# Altium integrated library National Semiconductor Switcher.IntLib: 2226 symbols (part 39 of 59)
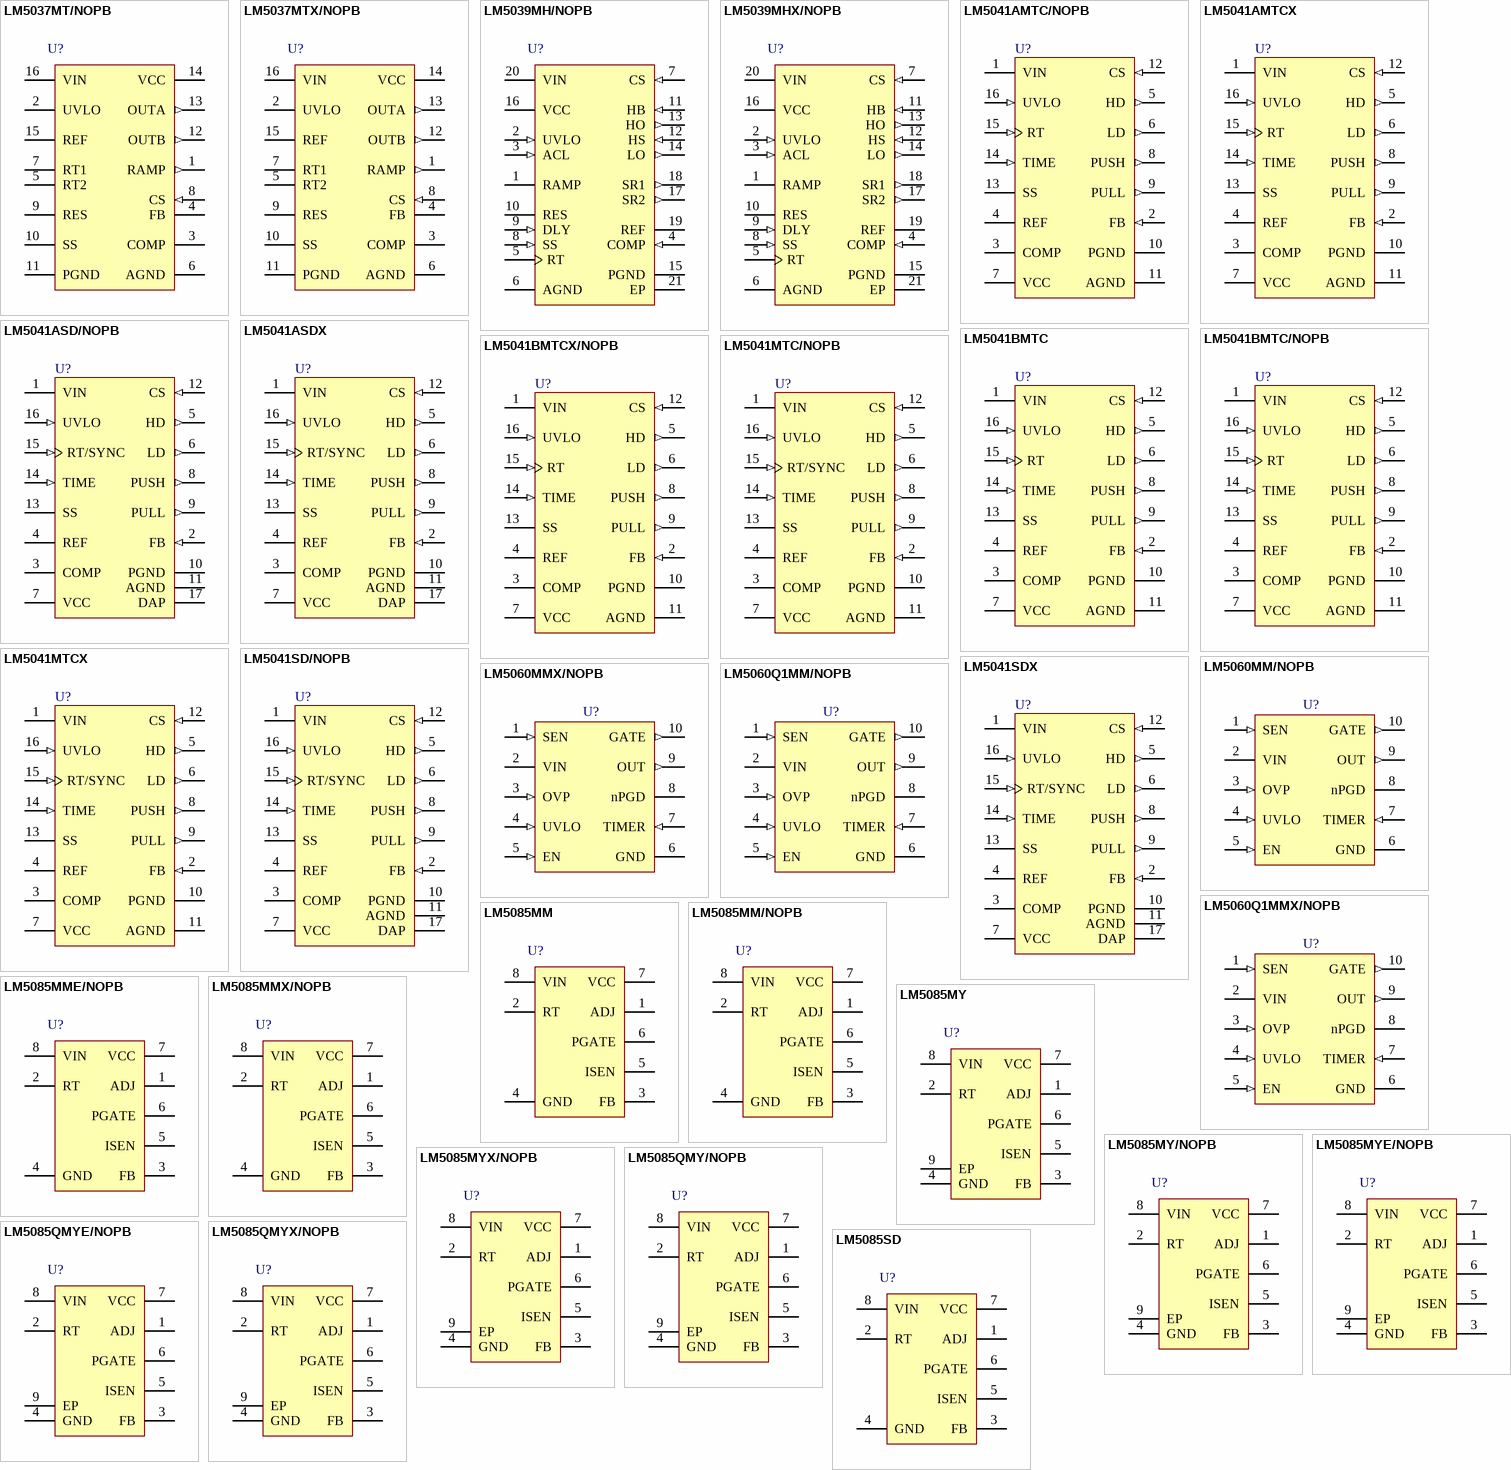
[diagram p107: symbols LM5037MT/NOPB to LM5085SD]

## LM5085MM/NOPB
designator U?
75V Constant On-Time PFET Buck Switching Controller, 8-pin MSOP, Pb-Free; PartNumber: LM5085MM/NOPB; Manufacturer: National Semiconductor; PackageTopMarking: ZXTT*SSTB; PowerWise: Y; CompType: Switcher; DatasheetVersion: Dec-2009; PackageVersion: revF, Apr-2008; PackageReference: MUA08A; PackageDescription: MINI SOIC, .118 x .118 x .034in, 8 Lead, .0256in Pitch; RoHS: Y; PinCount: 8; High-Reliability: Y; Code_JEDEC: MO-187-AA; ComponentLink1Description: Manufacturer URL; ComponentLink1URL: http://www.national.com/; ComponentLink2Description: LM5085 Datasheet; ComponentLink2URL: http://www.national.com/ds/LM/LM5085.pdf; ComponentLink3Description: LM5085 Web Page; ComponentLink3URL: http://www.national.com/pf/LM/LM5085.html; ComponentLink4Description: MUA08A Package Page; ComponentLink4URL: http://www.national.com/packaging/folders/mua08a.html
footprint MUA08A_N (TSOP, 8-Leads, Body 3x3mm, Pitch 0.65mm, IPC Medium Density)
footprint MUA08A_L (TSOP, 8-Leads, Body 3x3mm, Pitch 0.65mm, IPC High Density)
footprint MUA08A_M (TSOP, 8-Leads, Body 3x3mm, Pitch 0.65mm, IPC Low Density)
pins: 1 ADJ, 2 RT, 3 FB, 4 GND (power), 5 ISEN, 6 PGATE, 7 VCC (power), 8 VIN

## LM5085MME/NOPB
designator U?
75V Constant On-Time PFET Buck Switching Controller, 8-pin MSOP, Pb-Free; PartNumber: LM5085MME/NOPB; Manufacturer: National Semiconductor; PackageTopMarking: ZXTT*SSTB; PowerWise: Y; CompType: Switcher; DatasheetVersion: Dec-2009; PackageVersion: revF, Apr-2008; PackageReference: MUA08A; PackageDescription: MINI SOIC, .118 x .118 x .034in, 8 Lead, .0256in Pitch; RoHS: Y; PinCount: 8; High-Reliability: Y; Code_JEDEC: MO-187-AA; ComponentLink1Description: Manufacturer URL; ComponentLink1URL: http://www.national.com/; ComponentLink2Description: LM5085 Datasheet; ComponentLink2URL: http://www.national.com/ds/LM/LM5085.pdf; ComponentLink3Description: LM5085 Web Page; ComponentLink3URL: http://www.national.com/pf/LM/LM5085.html; ComponentLink4Description: MUA08A Package Page; ComponentLink4URL: http://www.national.com/packaging/folders/mua08a.html
footprint MUA08A_N (TSOP, 8-Leads, Body 3x3mm, Pitch 0.65mm, IPC Medium Density)
footprint MUA08A_L (TSOP, 8-Leads, Body 3x3mm, Pitch 0.65mm, IPC High Density)
footprint MUA08A_M (TSOP, 8-Leads, Body 3x3mm, Pitch 0.65mm, IPC Low Density)
pins: 1 ADJ, 2 RT, 3 FB, 4 GND (power), 5 ISEN, 6 PGATE, 7 VCC (power), 8 VIN

## LM5085MMX/NOPB
designator U?
75V Constant On-Time PFET Buck Switching Controller, 8-pin MSOP, Pb-Free; PartNumber: LM5085MMX/NOPB; Manufacturer: National Semiconductor; PackageTopMarking: ZXTT*SSTB; PowerWise: Y; CompType: Switcher; DatasheetVersion: Dec-2009; PackageVersion: revF, Apr-2008; PackageReference: MUA08A; PackageDescription: MINI SOIC, .118 x .118 x .034in, 8 Lead, .0256in Pitch; RoHS: Y; PinCount: 8; High-Reliability: Y; Code_JEDEC: MO-187-AA; ComponentLink1Description: Manufacturer URL; ComponentLink1URL: http://www.national.com/; ComponentLink2Description: LM5085 Datasheet; ComponentLink2URL: http://www.national.com/ds/LM/LM5085.pdf; ComponentLink3Description: LM5085 Web Page; ComponentLink3URL: http://www.national.com/pf/LM/LM5085.html; ComponentLink4Description: MUA08A Package Page; ComponentLink4URL: http://www.national.com/packaging/folders/mua08a.html
footprint MUA08A_N (TSOP, 8-Leads, Body 3x3mm, Pitch 0.65mm, IPC Medium Density)
footprint MUA08A_L (TSOP, 8-Leads, Body 3x3mm, Pitch 0.65mm, IPC High Density)
footprint MUA08A_M (TSOP, 8-Leads, Body 3x3mm, Pitch 0.65mm, IPC Low Density)
pins: 1 ADJ, 2 RT, 3 FB, 4 GND (power), 5 ISEN, 6 PGATE, 7 VCC (power), 8 VIN

## LM5085MY
designator U?
75V Constant On-Time PFET Buck Switching Controller, 8-pin eMSOP; PartNumber: LM5085MY; Manufacturer: National Semiconductor; PackageTopMarking: ZXTT*SSSB; PowerWise: Y; CompType: Switcher; DatasheetVersion: Dec-2009; PackageVersion: revA, Nov-2003; PackageReference: MUY08A; PackageDescription: Molded Mini-SO, Exposed Pad, .118 x .118 x .034in Body, 8 Lead, .0256in Pitch; RoHS: Y; PinCount: 8; High-Reliability: Y; Code_JEDEC: MO-187-AA; ComponentLink1Description: Manufacturer URL; ComponentLink1URL: http://www.national.com/; ComponentLink2Description: LM5085 Datasheet; ComponentLink2URL: http://www.national.com/ds/LM/LM5085.pdf; ComponentLink3Description: LM5085 Web Page; ComponentLink3URL: http://www.national.com/pf/LM/LM5085.html; ComponentLink4Description: MUY08A Package Page; ComponentLink4URL: http://www.national.com/packaging/folders/muy08a.html
footprint MUY08A_N (TSOP, 8-Leads, Body 3x3mm, Pitch 0.65mm, Thermal Pad, IPC Medium Density)
footprint MUY08A_L (TSOP, 8-Leads, Body 3x3mm, Pitch 0.65mm, Thermal Pad, IPC High Density)
footprint MUY08A_M (TSOP, 8-Leads, Body 3x3mm, Pitch 0.65mm, Thermal Pad, IPC Low Density)
pins: 1 ADJ, 2 RT, 3 FB, 4 GND (power), 5 ISEN, 6 PGATE, 7 VCC (power), 8 VIN, 9 EP

## LM5085MY/NOPB
designator U?
75V Constant On-Time PFET Buck Switching Controller, 8-pin eMSOP, Pb-Free; PartNumber: LM5085MY/NOPB; Manufacturer: National Semiconductor; PackageTopMarking: ZXTT*SSSB; PowerWise: Y; CompType: Switcher; DatasheetVersion: Dec-2009; PackageVersion: revA, Nov-2003; PackageReference: MUY08A; PackageDescription: Molded Mini-SO, Exposed Pad, .118 x .118 x .034in Body, 8 Lead, .0256in Pitch; RoHS: Y; PinCount: 8; High-Reliability: Y; Code_JEDEC: MO-187-AA; ComponentLink1Description: Manufacturer URL; ComponentLink1URL: http://www.national.com/; ComponentLink2Description: LM5085 Datasheet; ComponentLink2URL: http://www.national.com/ds/LM/LM5085.pdf; ComponentLink3Description: LM5085 Web Page; ComponentLink3URL: http://www.national.com/pf/LM/LM5085.html; ComponentLink4Description: MUY08A Package Page; ComponentLink4URL: http://www.national.com/packaging/folders/muy08a.html
footprint MUY08A_N (TSOP, 8-Leads, Body 3x3mm, Pitch 0.65mm, Thermal Pad, IPC Medium Density)
footprint MUY08A_L (TSOP, 8-Leads, Body 3x3mm, Pitch 0.65mm, Thermal Pad, IPC High Density)
footprint MUY08A_M (TSOP, 8-Leads, Body 3x3mm, Pitch 0.65mm, Thermal Pad, IPC Low Density)
pins: 1 ADJ, 2 RT, 3 FB, 4 GND (power), 5 ISEN, 6 PGATE, 7 VCC (power), 8 VIN, 9 EP

## LM5085MYE/NOPB
designator U?
75V Constant On-Time PFET Buck Switching Controller, 8-pin eMSOP, Pb-Free; PartNumber: LM5085MYE/NOPB; Manufacturer: National Semiconductor; PackageTopMarking: ZXTT*SSSB; PowerWise: Y; CompType: Switcher; DatasheetVersion: Dec-2009; PackageVersion: revA, Nov-2003; PackageReference: MUY08A; PackageDescription: Molded Mini-SO, Exposed Pad, .118 x .118 x .034in Body, 8 Lead, .0256in Pitch; RoHS: Y; PinCount: 8; High-Reliability: Y; Code_JEDEC: MO-187-AA; ComponentLink1Description: Manufacturer URL; ComponentLink1URL: http://www.national.com/; ComponentLink2Description: LM5085 Datasheet; ComponentLink2URL: http://www.national.com/ds/LM/LM5085.pdf; ComponentLink3Description: LM5085 Web Page; ComponentLink3URL: http://www.national.com/pf/LM/LM5085.html; ComponentLink4Description: MUY08A Package Page; ComponentLink4URL: http://www.national.com/packaging/folders/muy08a.html
footprint MUY08A_N (TSOP, 8-Leads, Body 3x3mm, Pitch 0.65mm, Thermal Pad, IPC Medium Density)
footprint MUY08A_L (TSOP, 8-Leads, Body 3x3mm, Pitch 0.65mm, Thermal Pad, IPC High Density)
footprint MUY08A_M (TSOP, 8-Leads, Body 3x3mm, Pitch 0.65mm, Thermal Pad, IPC Low Density)
pins: 1 ADJ, 2 RT, 3 FB, 4 GND (power), 5 ISEN, 6 PGATE, 7 VCC (power), 8 VIN, 9 EP

## LM5085MYX/NOPB
designator U?
75V Constant On-Time PFET Buck Switching Controller, 8-pin eMSOP, Pb-Free; PartNumber: LM5085MYX/NOPB; Manufacturer: National Semiconductor; PackageTopMarking: ZXTT*SSSB; PowerWise: Y; CompType: Switcher; DatasheetVersion: Dec-2009; PackageVersion: revA, Nov-2003; PackageReference: MUY08A; PackageDescription: Molded Mini-SO, Exposed Pad, .118 x .118 x .034in Body, 8 Lead, .0256in Pitch; RoHS: Y; PinCount: 8; High-Reliability: Y; Code_JEDEC: MO-187-AA; ComponentLink1Description: Manufacturer URL; ComponentLink1URL: http://www.national.com/; ComponentLink2Description: LM5085 Datasheet; ComponentLink2URL: http://www.national.com/ds/LM/LM5085.pdf; ComponentLink3Description: LM5085 Web Page; ComponentLink3URL: http://www.national.com/pf/LM/LM5085.html; ComponentLink4Description: MUY08A Package Page; ComponentLink4URL: http://www.national.com/packaging/folders/muy08a.html
footprint MUY08A_N (TSOP, 8-Leads, Body 3x3mm, Pitch 0.65mm, Thermal Pad, IPC Medium Density)
footprint MUY08A_L (TSOP, 8-Leads, Body 3x3mm, Pitch 0.65mm, Thermal Pad, IPC High Density)
footprint MUY08A_M (TSOP, 8-Leads, Body 3x3mm, Pitch 0.65mm, Thermal Pad, IPC Low Density)
pins: 1 ADJ, 2 RT, 3 FB, 4 GND (power), 5 ISEN, 6 PGATE, 7 VCC (power), 8 VIN, 9 EP

## LM5085QMY/NOPB
designator U?
75V Constant On-Time PFET Buck Switching Controller, 8-pin eMSOP, Pb-Free; PartNumber: LM5085QMY/NOPB; Manufacturer: National Semiconductor; PackageTopMarking: ZXTT*SYCB; PowerWise: Y; CompType: Switcher; DatasheetVersion: Dec-2009; PackageVersion: revA, Nov-2003; PackageReference: MUY08A; PackageDescription: Molded Mini-SO, Exposed Pad, .118 x .118 x .034in Body, 8 Lead, .0256in Pitch; RoHS: Y; PinCount: 8; High-Reliability: Y; Code_JEDEC: MO-187-AA; ComponentLink1Description: Manufacturer URL; ComponentLink1URL: http://www.national.com/; ComponentLink2Description: LM5085 Datasheet; ComponentLink2URL: http://www.national.com/ds/LM/LM5085.pdf; ComponentLink3Description: LM5085 Web Page; ComponentLink3URL: http://www.national.com/pf/LM/LM5085.html; ComponentLink4Description: MUY08A Package Page; ComponentLink4URL: http://www.national.com/packaging/folders/muy08a.html
footprint MUY08A_N (TSOP, 8-Leads, Body 3x3mm, Pitch 0.65mm, Thermal Pad, IPC Medium Density)
footprint MUY08A_L (TSOP, 8-Leads, Body 3x3mm, Pitch 0.65mm, Thermal Pad, IPC High Density)
footprint MUY08A_M (TSOP, 8-Leads, Body 3x3mm, Pitch 0.65mm, Thermal Pad, IPC Low Density)
pins: 1 ADJ, 2 RT, 3 FB, 4 GND (power), 5 ISEN, 6 PGATE, 7 VCC (power), 8 VIN, 9 EP

## LM5085QMYE/NOPB
designator U?
75V Constant On-Time PFET Buck Switching Controller, 8-pin eMSOP, Pb-Free; PartNumber: LM5085QMYE/NOPB; Manufacturer: National Semiconductor; PackageTopMarking: ZXTT*SYCB; PowerWise: Y; CompType: Switcher; DatasheetVersion: Dec-2009; PackageVersion: revA, Nov-2003; PackageReference: MUY08A; PackageDescription: Molded Mini-SO, Exposed Pad, .118 x .118 x .034in Body, 8 Lead, .0256in Pitch; RoHS: Y; PinCount: 8; High-Reliability: Y; Code_JEDEC: MO-187-AA; ComponentLink1Description: Manufacturer URL; ComponentLink1URL: http://www.national.com/; ComponentLink2Description: LM5085 Datasheet; ComponentLink2URL: http://www.national.com/ds/LM/LM5085.pdf; ComponentLink3Description: LM5085 Web Page; ComponentLink3URL: http://www.national.com/pf/LM/LM5085.html; ComponentLink4Description: MUY08A Package Page; ComponentLink4URL: http://www.national.com/packaging/folders/muy08a.html
footprint MUY08A_N (TSOP, 8-Leads, Body 3x3mm, Pitch 0.65mm, Thermal Pad, IPC Medium Density)
footprint MUY08A_L (TSOP, 8-Leads, Body 3x3mm, Pitch 0.65mm, Thermal Pad, IPC High Density)
footprint MUY08A_M (TSOP, 8-Leads, Body 3x3mm, Pitch 0.65mm, Thermal Pad, IPC Low Density)
pins: 1 ADJ, 2 RT, 3 FB, 4 GND (power), 5 ISEN, 6 PGATE, 7 VCC (power), 8 VIN, 9 EP

## LM5085QMYX/NOPB
designator U?
75V Constant On-Time PFET Buck Switching Controller, 8-pin eMSOP, Pb-Free; PartNumber: LM5085QMYX/NOPB; Manufacturer: National Semiconductor; PackageTopMarking: ZXTT*SYCB; PowerWise: Y; CompType: Switcher; DatasheetVersion: Dec-2009; PackageVersion: revA, Nov-2003; PackageReference: MUY08A; PackageDescription: Molded Mini-SO, Exposed Pad, .118 x .118 x .034in Body, 8 Lead, .0256in Pitch; RoHS: Y; PinCount: 8; High-Reliability: Y; Code_JEDEC: MO-187-AA; ComponentLink1Description: Manufacturer URL; ComponentLink1URL: http://www.national.com/; ComponentLink2Description: LM5085 Datasheet; ComponentLink2URL: http://www.national.com/ds/LM/LM5085.pdf; ComponentLink3Description: LM5085 Web Page; ComponentLink3URL: http://www.national.com/pf/LM/LM5085.html; ComponentLink4Description: MUY08A Package Page; ComponentLink4URL: http://www.national.com/packaging/folders/muy08a.html
footprint MUY08A_N (TSOP, 8-Leads, Body 3x3mm, Pitch 0.65mm, Thermal Pad, IPC Medium Density)
footprint MUY08A_L (TSOP, 8-Leads, Body 3x3mm, Pitch 0.65mm, Thermal Pad, IPC High Density)
footprint MUY08A_M (TSOP, 8-Leads, Body 3x3mm, Pitch 0.65mm, Thermal Pad, IPC Low Density)
pins: 1 ADJ, 2 RT, 3 FB, 4 GND (power), 5 ISEN, 6 PGATE, 7 VCC (power), 8 VIN, 9 EP

## LM5085SD
designator U?
75V Constant On-Time PFET Buck Switching Controller, 8-pin LLP; PartNumber: LM5085SD; Manufacturer: National Semiconductor; PackageTopMarking: ZXYTT*L245B; PowerWise: Y; CompType: Switcher; DatasheetVersion: Dec-2009; PackageVersion: revA, Aug-2003; PackageReference: SDA08A; PackageDescription: LLP, Plastic, Dual, 3 x 3 x 0.8mm Body, 8 Lead, 0.5mm Pitch, No Pullback; RoHS: Y; PinCount: 8; High-Reliability: Y; ComponentLink1Description: Manufacturer URL; ComponentLink1URL: http://www.national.com/; ComponentLink2Description: LM5085 Datasheet; ComponentLink2URL: http://www.national.com/ds/LM/LM5085.pdf; ComponentLink3Description: LM5085 Web Page; ComponentLink3URL: http://www.national.com/pf/LM/LM5085.html; ComponentLink4Description: SDA08A Package Page; ComponentLink4URL: http://www.national.com/packaging/folders/sda08a.html
footprint SDA08A (SON, 8-Leads, Body 3x3mm, Pitch 0.5mm, NSC Recommended)
pins: 1 ADJ, 2 RT, 3 FB, 4 GND (power), 5 ISEN, 6 PGATE, 7 VCC (power), 8 VIN

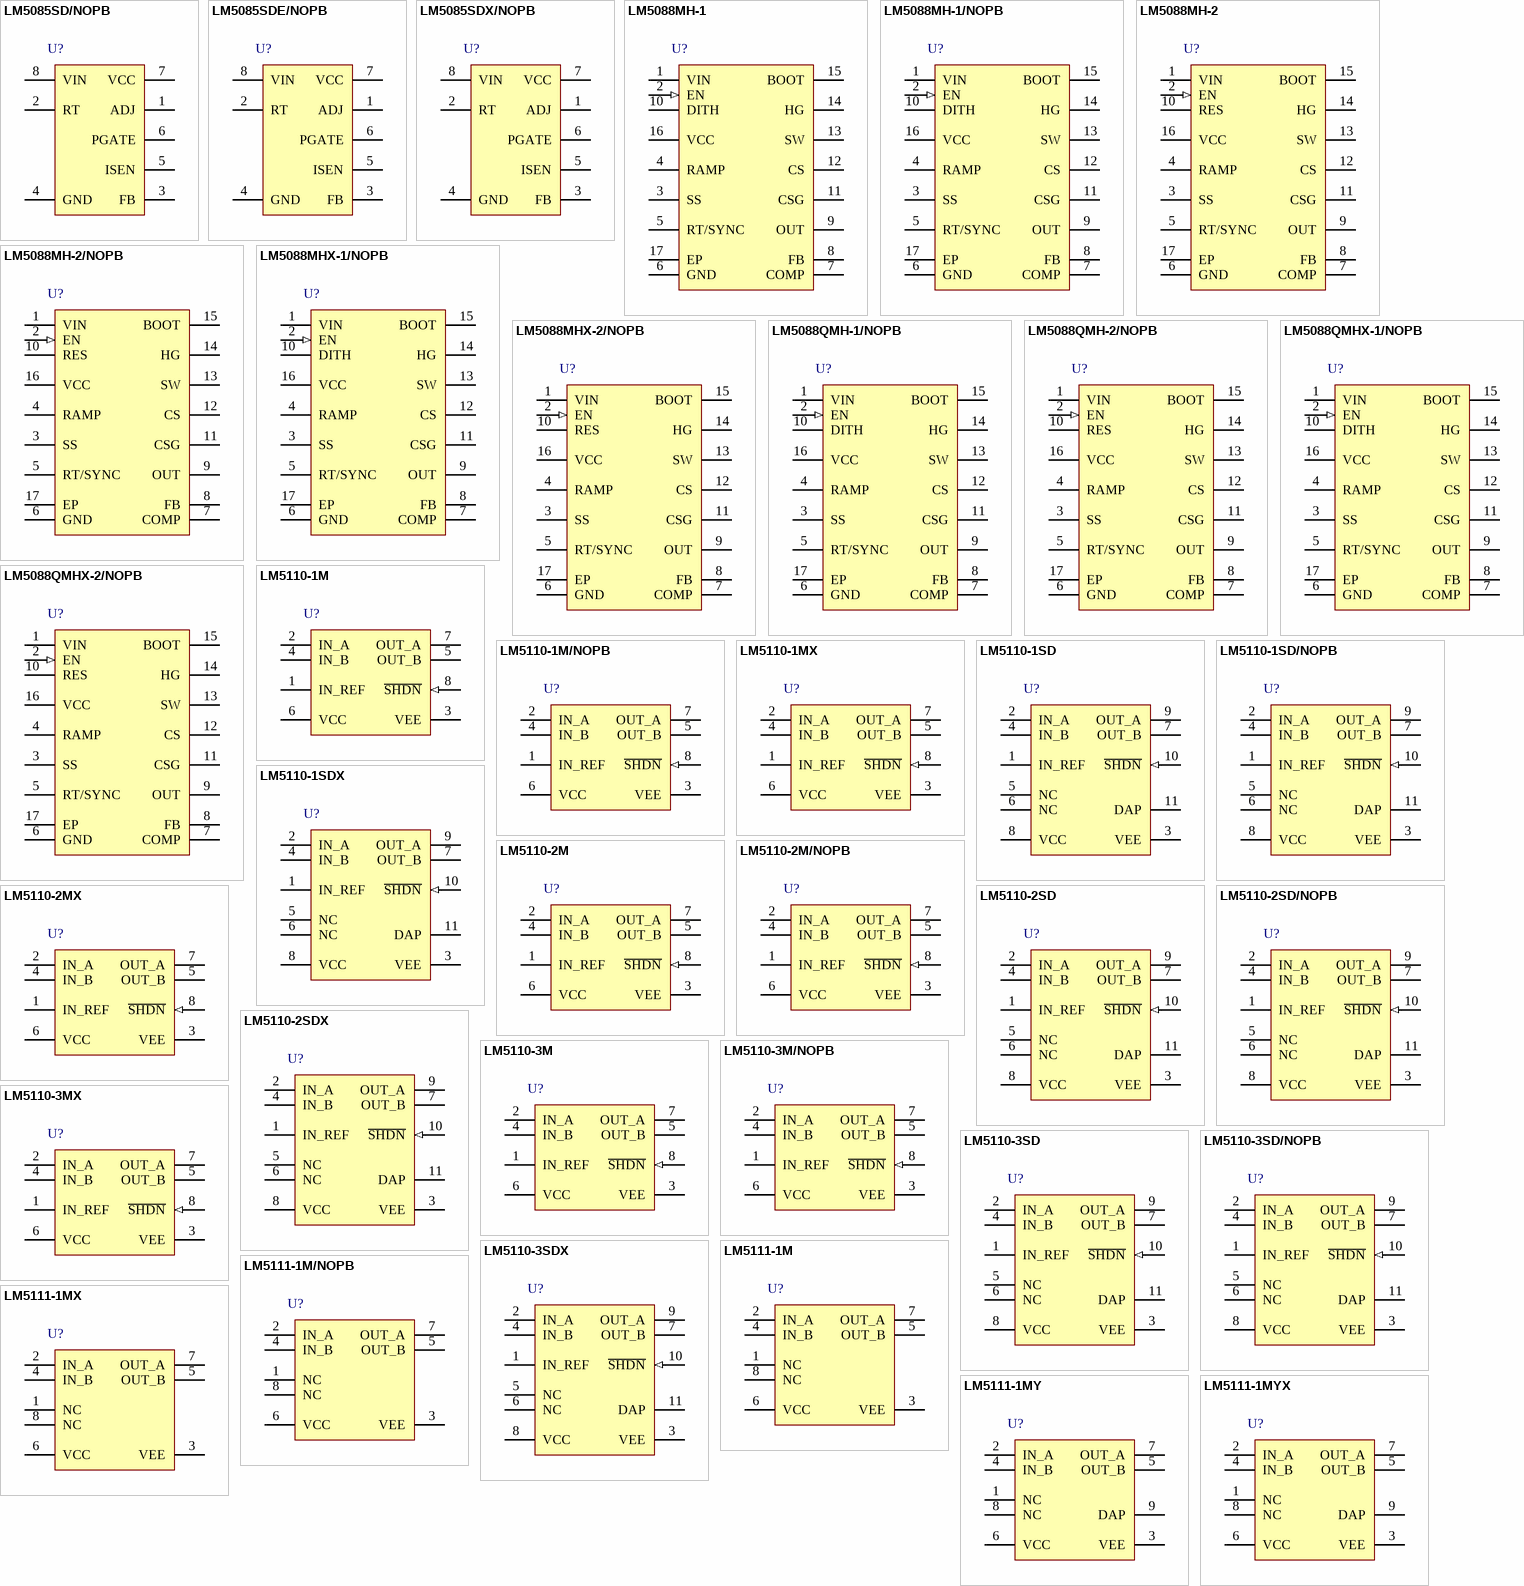
[diagram p43: symbols LM5085SD/NOPB to LM5111-1MYX]

## LM5085SD/NOPB
designator U?
75V Constant On-Time PFET Buck Switching Controller, 8-pin LLP, Pb-Free; PartNumber: LM5085SD/NOPB; Manufacturer: National Semiconductor; PackageTopMarking: ZXYTT*L245B; PowerWise: Y; CompType: Switcher; DatasheetVersion: Dec-2009; PackageVersion: revA, Aug-2003; PackageReference: SDA08A; PackageDescription: LLP, Plastic, Dual, 3 x 3 x 0.8mm Body, 8 Lead, 0.5mm Pitch, No Pullback; RoHS: Y; PinCount: 8; High-Reliability: Y; ComponentLink1Description: Manufacturer URL; ComponentLink1URL: http://www.national.com/; ComponentLink2Description: LM5085 Datasheet; ComponentLink2URL: http://www.national.com/ds/LM/LM5085.pdf; ComponentLink3Description: LM5085 Web Page; ComponentLink3URL: http://www.national.com/pf/LM/LM5085.html; ComponentLink4Description: SDA08A Package Page; ComponentLink4URL: http://www.national.com/packaging/folders/sda08a.html
footprint SDA08A (SON, 8-Leads, Body 3x3mm, Pitch 0.5mm, NSC Recommended)
pins: 1 ADJ, 2 RT, 3 FB, 4 GND (power), 5 ISEN, 6 PGATE, 7 VCC (power), 8 VIN

## LM5085SDE/NOPB
designator U?
75V Constant On-Time PFET Buck Switching Controller, 8-pin LLP, Pb-Free; PartNumber: LM5085SDE/NOPB; Manufacturer: National Semiconductor; PackageTopMarking: ZXYTT*L245B; PowerWise: Y; CompType: Switcher; DatasheetVersion: Dec-2009; PackageVersion: revA, Aug-2003; PackageReference: SDA08A; PackageDescription: LLP, Plastic, Dual, 3 x 3 x 0.8mm Body, 8 Lead, 0.5mm Pitch, No Pullback; RoHS: Y; PinCount: 8; High-Reliability: Y; ComponentLink1Description: Manufacturer URL; ComponentLink1URL: http://www.national.com/; ComponentLink2Description: LM5085 Datasheet; ComponentLink2URL: http://www.national.com/ds/LM/LM5085.pdf; ComponentLink3Description: LM5085 Web Page; ComponentLink3URL: http://www.national.com/pf/LM/LM5085.html; ComponentLink4Description: SDA08A Package Page; ComponentLink4URL: http://www.national.com/packaging/folders/sda08a.html
footprint SDA08A (SON, 8-Leads, Body 3x3mm, Pitch 0.5mm, NSC Recommended)
pins: 1 ADJ, 2 RT, 3 FB, 4 GND (power), 5 ISEN, 6 PGATE, 7 VCC (power), 8 VIN

## LM5085SDX/NOPB
designator U?
75V Constant On-Time PFET Buck Switching Controller, 8-pin LLP, Pb-Free; PartNumber: LM5085SDX/NOPB; Manufacturer: National Semiconductor; PackageTopMarking: ZXYTT*L245B; PowerWise: Y; CompType: Switcher; DatasheetVersion: Dec-2009; PackageVersion: revA, Aug-2003; PackageReference: SDA08A; PackageDescription: LLP, Plastic, Dual, 3 x 3 x 0.8mm Body, 8 Lead, 0.5mm Pitch, No Pullback; RoHS: Y; PinCount: 8; High-Reliability: Y; ComponentLink1Description: Manufacturer URL; ComponentLink1URL: http://www.national.com/; ComponentLink2Description: LM5085 Datasheet; ComponentLink2URL: http://www.national.com/ds/LM/LM5085.pdf; ComponentLink3Description: LM5085 Web Page; ComponentLink3URL: http://www.national.com/pf/LM/LM5085.html; ComponentLink4Description: SDA08A Package Page; ComponentLink4URL: http://www.national.com/packaging/folders/sda08a.html
footprint SDA08A (SON, 8-Leads, Body 3x3mm, Pitch 0.5mm, NSC Recommended)
pins: 1 ADJ, 2 RT, 3 FB, 4 GND (power), 5 ISEN, 6 PGATE, 7 VCC (power), 8 VIN

## LM5088MH-1
designator U?
Wide Input Range Non-Synchronous Buck Controller, 16-pin TSSOP-EP; PartNumber: LM5088MH-1; Manufacturer: National Semiconductor; PackageTopMarking: NSUZXYTT*LM5088*MH-1; PowerWise: Y; CompType: Switcher; DatasheetVersion: Mar-2011; PackageVersion: revA, Apr-2003; PackageReference: MXA16A; PackageDescription: Molded TSSOP, Jedec, Exposed Pad, 5.0 x 4.4 x 0.9mm Body,16 Lead, 0.65mm Pitch; RoHS: Y; PinCount: 16; High-Reliability: Y; Code_JEDEC: MO-153-ABT; ComponentLink1Description: Manufacturer URL; ComponentLink1URL: http://www.national.com/; ComponentLink2Description: LM5088 Datasheet; ComponentLink2URL: http://www.national.com/ds/LM/LM5088.pdf; ComponentLink3Description: LM5088 Web Page; ComponentLink3URL: http://www.national.com/pf/LM/LM5088.html; ComponentLink4Description: MXA16A Package Page; ComponentLink4URL: http://www.national.com/packaging/folders/mxa16a.html
footprint MXA16A_N (TSOP, 16-Leads, Body 5x4.4mm, Pitch 0.65mm, Thermal Pad, IPC Medium Density)
footprint MXA16A_L (TSOP, 16-Leads, Body 5x4.4mm, Pitch 0.65mm, Thermal Pad, IPC High Density)
footprint MXA16A_M (TSOP, 16-Leads, Body 5x4.4mm, Pitch 0.65mm, Thermal Pad, IPC Low Density)
pins: 1 VIN, 2 EN (in), 3 SS, 4 RAMP, 5 RT/SYNC, 6 GND (power), 7 COMP (power), 8 FB (power), 9 OUT, 10 DITH, 11 CSG (power), 12 CS, 13 SW (power), 14 HG (power), 15 BOOT, 16 VCC (power), 17 EP

## LM5088MH-1/NOPB
designator U?
Wide Input Range Non-Synchronous Buck Controller, 16-pin TSSOP-EP, Pb-Free; PartNumber: LM5088MH-1/NOPB; Manufacturer: National Semiconductor; PackageTopMarking: NSUZXYTT*LM5088*MH-1; PowerWise: Y; CompType: Switcher; DatasheetVersion: Mar-2011; PackageVersion: revA, Apr-2003; PackageReference: MXA16A; PackageDescription: Molded TSSOP, Jedec, Exposed Pad, 5.0 x 4.4 x 0.9mm Body,16 Lead, 0.65mm Pitch; RoHS: Y; PinCount: 16; High-Reliability: Y; Code_JEDEC: MO-153-ABT; ComponentLink1Description: Manufacturer URL; ComponentLink1URL: http://www.national.com/; ComponentLink2Description: LM5088 Datasheet; ComponentLink2URL: http://www.national.com/ds/LM/LM5088.pdf; ComponentLink3Description: LM5088 Web Page; ComponentLink3URL: http://www.national.com/pf/LM/LM5088.html; ComponentLink4Description: MXA16A Package Page; ComponentLink4URL: http://www.national.com/packaging/folders/mxa16a.html
footprint MXA16A_N (TSOP, 16-Leads, Body 5x4.4mm, Pitch 0.65mm, Thermal Pad, IPC Medium Density)
footprint MXA16A_L (TSOP, 16-Leads, Body 5x4.4mm, Pitch 0.65mm, Thermal Pad, IPC High Density)
footprint MXA16A_M (TSOP, 16-Leads, Body 5x4.4mm, Pitch 0.65mm, Thermal Pad, IPC Low Density)
pins: 1 VIN, 2 EN (in), 3 SS, 4 RAMP, 5 RT/SYNC, 6 GND (power), 7 COMP (power), 8 FB (power), 9 OUT, 10 DITH, 11 CSG (power), 12 CS, 13 SW (power), 14 HG (power), 15 BOOT, 16 VCC (power), 17 EP

## LM5088MH-2
designator U?
Wide Input Range Non-Synchronous Buck Controller, 16-pin TSSOP-EP; PartNumber: LM5088MH-2; Manufacturer: National Semiconductor; PackageTopMarking: NSUZXYTT*LM5088*MH-2; PowerWise: Y; CompType: Switcher; DatasheetVersion: Mar-2011; PackageVersion: revA, Apr-2003; PackageReference: MXA16A; PackageDescription: Molded TSSOP, Jedec, Exposed Pad, 5.0 x 4.4 x 0.9mm Body,16 Lead, 0.65mm Pitch; RoHS: Y; PinCount: 16; High-Reliability: Y; Code_JEDEC: MO-153-ABT; ComponentLink1Description: Manufacturer URL; ComponentLink1URL: http://www.national.com/; ComponentLink2Description: LM5088 Datasheet; ComponentLink2URL: http://www.national.com/ds/LM/LM5088.pdf; ComponentLink3Description: LM5088 Web Page; ComponentLink3URL: http://www.national.com/pf/LM/LM5088.html; ComponentLink4Description: MXA16A Package Page; ComponentLink4URL: http://www.national.com/packaging/folders/mxa16a.html
footprint MXA16A_N (TSOP, 16-Leads, Body 5x4.4mm, Pitch 0.65mm, Thermal Pad, IPC Medium Density)
footprint MXA16A_L (TSOP, 16-Leads, Body 5x4.4mm, Pitch 0.65mm, Thermal Pad, IPC High Density)
footprint MXA16A_M (TSOP, 16-Leads, Body 5x4.4mm, Pitch 0.65mm, Thermal Pad, IPC Low Density)
pins: 1 VIN, 2 EN (in), 3 SS, 4 RAMP, 5 RT/SYNC, 6 GND (power), 7 COMP (power), 8 FB (power), 9 OUT, 10 RES, 11 CSG (power), 12 CS, 13 SW (power), 14 HG (power), 15 BOOT, 16 VCC (power), 17 EP

## LM5088MH-2/NOPB
designator U?
Wide Input Range Non-Synchronous Buck Controller, 16-pin TSSOP-EP, Pb-Free; PartNumber: LM5088MH-2/NOPB; Manufacturer: National Semiconductor; PackageTopMarking: NSUZXYTT*LM5088*MH-2; PowerWise: Y; CompType: Switcher; DatasheetVersion: Mar-2011; PackageVersion: revA, Apr-2003; PackageReference: MXA16A; PackageDescription: Molded TSSOP, Jedec, Exposed Pad, 5.0 x 4.4 x 0.9mm Body,16 Lead, 0.65mm Pitch; RoHS: Y; PinCount: 16; High-Reliability: Y; Code_JEDEC: MO-153-ABT; ComponentLink1Description: Manufacturer URL; ComponentLink1URL: http://www.national.com/; ComponentLink2Description: LM5088 Datasheet; ComponentLink2URL: http://www.national.com/ds/LM/LM5088.pdf; ComponentLink3Description: LM5088 Web Page; ComponentLink3URL: http://www.national.com/pf/LM/LM5088.html; ComponentLink4Description: MXA16A Package Page; ComponentLink4URL: http://www.national.com/packaging/folders/mxa16a.html
footprint MXA16A_N (TSOP, 16-Leads, Body 5x4.4mm, Pitch 0.65mm, Thermal Pad, IPC Medium Density)
footprint MXA16A_L (TSOP, 16-Leads, Body 5x4.4mm, Pitch 0.65mm, Thermal Pad, IPC High Density)
footprint MXA16A_M (TSOP, 16-Leads, Body 5x4.4mm, Pitch 0.65mm, Thermal Pad, IPC Low Density)
pins: 1 VIN, 2 EN (in), 3 SS, 4 RAMP, 5 RT/SYNC, 6 GND (power), 7 COMP (power), 8 FB (power), 9 OUT, 10 RES, 11 CSG (power), 12 CS, 13 SW (power), 14 HG (power), 15 BOOT, 16 VCC (power), 17 EP

## LM5088MHX-1/NOPB
designator U?
Wide Input Range Non-Synchronous Buck Controller, 16-pin TSSOP-EP, Pb-Free; PartNumber: LM5088MHX-1/NOPB; Manufacturer: National Semiconductor; PackageTopMarking: NSUZXYTT*LM5088*MH-1; PowerWise: Y; CompType: Switcher; DatasheetVersion: Mar-2011; PackageVersion: revA, Apr-2003; PackageReference: MXA16A; PackageDescription: Molded TSSOP, Jedec, Exposed Pad, 5.0 x 4.4 x 0.9mm Body,16 Lead, 0.65mm Pitch; RoHS: Y; PinCount: 16; High-Reliability: Y; Code_JEDEC: MO-153-ABT; ComponentLink1Description: Manufacturer URL; ComponentLink1URL: http://www.national.com/; ComponentLink2Description: LM5088 Datasheet; ComponentLink2URL: http://www.national.com/ds/LM/LM5088.pdf; ComponentLink3Description: LM5088 Web Page; ComponentLink3URL: http://www.national.com/pf/LM/LM5088.html; ComponentLink4Description: MXA16A Package Page; ComponentLink4URL: http://www.national.com/packaging/folders/mxa16a.html
footprint MXA16A_N (TSOP, 16-Leads, Body 5x4.4mm, Pitch 0.65mm, Thermal Pad, IPC Medium Density)
footprint MXA16A_L (TSOP, 16-Leads, Body 5x4.4mm, Pitch 0.65mm, Thermal Pad, IPC High Density)
footprint MXA16A_M (TSOP, 16-Leads, Body 5x4.4mm, Pitch 0.65mm, Thermal Pad, IPC Low Density)
pins: 1 VIN, 2 EN (in), 3 SS, 4 RAMP, 5 RT/SYNC, 6 GND (power), 7 COMP (power), 8 FB (power), 9 OUT, 10 DITH, 11 CSG (power), 12 CS, 13 SW (power), 14 HG (power), 15 BOOT, 16 VCC (power), 17 EP

## LM5088MHX-2/NOPB
designator U?
Wide Input Range Non-Synchronous Buck Controller, 16-pin TSSOP-EP, Pb-Free; PartNumber: LM5088MHX-2/NOPB; Manufacturer: National Semiconductor; PackageTopMarking: NSUZXYTT*LM5088*MH-2; PowerWise: Y; CompType: Switcher; DatasheetVersion: Mar-2011; PackageVersion: revA, Apr-2003; PackageReference: MXA16A; PackageDescription: Molded TSSOP, Jedec, Exposed Pad, 5.0 x 4.4 x 0.9mm Body,16 Lead, 0.65mm Pitch; RoHS: Y; PinCount: 16; High-Reliability: Y; Code_JEDEC: MO-153-ABT; ComponentLink1Description: Manufacturer URL; ComponentLink1URL: http://www.national.com/; ComponentLink2Description: LM5088 Datasheet; ComponentLink2URL: http://www.national.com/ds/LM/LM5088.pdf; ComponentLink3Description: LM5088 Web Page; ComponentLink3URL: http://www.national.com/pf/LM/LM5088.html; ComponentLink4Description: MXA16A Package Page; ComponentLink4URL: http://www.national.com/packaging/folders/mxa16a.html
footprint MXA16A_N (TSOP, 16-Leads, Body 5x4.4mm, Pitch 0.65mm, Thermal Pad, IPC Medium Density)
footprint MXA16A_L (TSOP, 16-Leads, Body 5x4.4mm, Pitch 0.65mm, Thermal Pad, IPC High Density)
footprint MXA16A_M (TSOP, 16-Leads, Body 5x4.4mm, Pitch 0.65mm, Thermal Pad, IPC Low Density)
pins: 1 VIN, 2 EN (in), 3 SS, 4 RAMP, 5 RT/SYNC, 6 GND (power), 7 COMP (power), 8 FB (power), 9 OUT, 10 RES, 11 CSG (power), 12 CS, 13 SW (power), 14 HG (power), 15 BOOT, 16 VCC (power), 17 EP

## LM5088QMH-1/NOPB
designator U?
Wide Input Range Non-Synchronous Buck Controller, AEC-Q100 Grade 1, 16-pin TSSOP-EP, Dithering, 73 Rail; PartNumber: LM5088QMH-1/NOPB; Manufacturer: National Semiconductor; PackageTopMarking: NSUZXYTT*LM5088*QMH-1; PowerWise: Y; CompType: Switcher; DatasheetVersion: Mar-2011; PackageVersion: revA, Apr-2003; PackageReference: MXA16A; PackageDescription: Molded TSSOP, Jedec, Exposed Pad, 5.0 x 4.4 x 0.9mm Body,16 Lead, 0.65mm Pitch; RoHS: Y; PinCount: 16; High-Reliability: Y; Code_JEDEC: MO-153-ABT; ComponentLink1Description: Manufacturer URL; ComponentLink1URL: http://www.national.com/; ComponentLink2Description: LM5088 Datasheet; ComponentLink2URL: http://www.national.com/ds/LM/LM5088.pdf; ComponentLink3Description: LM5088 Web Page; ComponentLink3URL: http://www.national.com/pf/LM/LM5088.html; ComponentLink4Description: MXA16A Package Page; ComponentLink4URL: http://www.national.com/packaging/folders/mxa16a.html
footprint MXA16A_N (TSOP, 16-Leads, Body 5x4.4mm, Pitch 0.65mm, Thermal Pad, IPC Medium Density)
footprint MXA16A_L (TSOP, 16-Leads, Body 5x4.4mm, Pitch 0.65mm, Thermal Pad, IPC High Density)
footprint MXA16A_M (TSOP, 16-Leads, Body 5x4.4mm, Pitch 0.65mm, Thermal Pad, IPC Low Density)
pins: 1 VIN, 2 EN (in), 3 SS, 4 RAMP, 5 RT/SYNC, 6 GND (power), 7 COMP (power), 8 FB (power), 9 OUT, 10 DITH, 11 CSG (power), 12 CS, 13 SW (power), 14 HG (power), 15 BOOT, 16 VCC (power), 17 EP

## LM5088QMH-2/NOPB
designator U?
Wide Input Range Non-Synchronous Buck Controller, AEC-Q100 Grade 1, 16-pin TSSOP-EP, Restart, 73 Rail; PartNumber: LM5088QMH-2/NOPB; Manufacturer: National Semiconductor; PackageTopMarking: NSUZXYTT*LM5088*QMH-2; PowerWise: N; CompType: Switcher; High-Reliability: Y; DatasheetVersion: Mar-2011; PackageVersion: revA, Apr-2003; PackageReference: MXA16A; PackageDescription: Molded TSSOP, Jedec, Exposed Pad, 5.0 x 4.4 x 0.9mm Body,16 Lead, 0.65mm Pitch; RoHS: Y; PinCount: 16; Code_JEDEC: MO-153-ABT; ComponentLink1Description: Manufacturer URL; ComponentLink1URL: http://www.national.com/; ComponentLink2Description: LM5088 Datasheet; ComponentLink2URL: http://www.national.com/ds/LM/LM5088.pdf; ComponentLink3Description: LM5088 Web Page; ComponentLink3URL: http://www.national.com/pf/LM/LM5088.html; ComponentLink4Description: MXA16A Package Page; ComponentLink4URL: http://www.national.com/packaging/folders/mxa16a.html
footprint MXA16A_N (TSOP, 16-Leads, Body 5x4.4mm, Pitch 0.65mm, Thermal Pad, IPC Medium Density)
footprint MXA16A_L (TSOP, 16-Leads, Body 5x4.4mm, Pitch 0.65mm, Thermal Pad, IPC High Density)
footprint MXA16A_M (TSOP, 16-Leads, Body 5x4.4mm, Pitch 0.65mm, Thermal Pad, IPC Low Density)
pins: 1 VIN, 2 EN (in), 3 SS, 4 RAMP, 5 RT/SYNC, 6 GND (power), 7 COMP (power), 8 FB (power), 9 OUT, 10 RES, 11 CSG (power), 12 CS, 13 SW (power), 14 HG (power), 15 BOOT, 16 VCC (power), 17 EP

## LM5088QMHX-1/NOPB
designator U?
Wide Input Range Non-Synchronous Buck Controller, AEC-Q100 Grade 1, 16-pin TSSOP-EP, Dithering, 2500 Rail; PartNumber: LM5088QMHX-1/NOPB; Manufacturer: National Semiconductor; PackageTopMarking: NSUZXYTT*LM5088*QMH-1; PowerWise: Y; CompType: Switcher; DatasheetVersion: Mar-2011; PackageVersion: revA, Apr-2003; PackageReference: MXA16A; PackageDescription: Molded TSSOP, Jedec, Exposed Pad, 5.0 x 4.4 x 0.9mm Body,16 Lead, 0.65mm Pitch; RoHS: Y; PinCount: 16; High-Reliability: Y; Code_JEDEC: MO-153-ABT; ComponentLink1Description: Manufacturer URL; ComponentLink1URL: http://www.national.com/; ComponentLink2Description: LM5088 Datasheet; ComponentLink2URL: http://www.national.com/ds/LM/LM5088.pdf; ComponentLink3Description: LM5088 Web Page; ComponentLink3URL: http://www.national.com/pf/LM/LM5088.html; ComponentLink4Description: MXA16A Package Page; ComponentLink4URL: http://www.national.com/packaging/folders/mxa16a.html
footprint MXA16A_N (TSOP, 16-Leads, Body 5x4.4mm, Pitch 0.65mm, Thermal Pad, IPC Medium Density)
footprint MXA16A_L (TSOP, 16-Leads, Body 5x4.4mm, Pitch 0.65mm, Thermal Pad, IPC High Density)
footprint MXA16A_M (TSOP, 16-Leads, Body 5x4.4mm, Pitch 0.65mm, Thermal Pad, IPC Low Density)
pins: 1 VIN, 2 EN (in), 3 SS, 4 RAMP, 5 RT/SYNC, 6 GND (power), 7 COMP (power), 8 FB (power), 9 OUT, 10 DITH, 11 CSG (power), 12 CS, 13 SW (power), 14 HG (power), 15 BOOT, 16 VCC (power), 17 EP

## LM5088QMHX-2/NOPB
designator U?
Wide Input Range Non-Synchronous Buck Controller, AEC-Q100 Grade 1, 16-pin TSSOP-EP, Restart, 2500 Rail; PartNumber: LM5088QMHX-2/NOPB; Manufacturer: National Semiconductor; PackageTopMarking: NSUZXYTT*LM5088*QMH-2; PowerWise: N; CompType: Switcher; High-Reliability: Y; DatasheetVersion: Mar-2011; PackageVersion: revA, Apr-2003; PackageReference: MXA16A; PackageDescription: Molded TSSOP, Jedec, Exposed Pad, 5.0 x 4.4 x 0.9mm Body,16 Lead, 0.65mm Pitch; RoHS: Y; PinCount: 16; Code_JEDEC: MO-153-ABT; ComponentLink1Description: Manufacturer URL; ComponentLink1URL: http://www.national.com/; ComponentLink2Description: LM5088 Datasheet; ComponentLink2URL: http://www.national.com/ds/LM/LM5088.pdf; ComponentLink3Description: LM5088 Web Page; ComponentLink3URL: http://www.national.com/pf/LM/LM5088.html; ComponentLink4Description: MXA16A Package Page; ComponentLink4URL: http://www.national.com/packaging/folders/mxa16a.html
footprint MXA16A_N (TSOP, 16-Leads, Body 5x4.4mm, Pitch 0.65mm, Thermal Pad, IPC Medium Density)
footprint MXA16A_L (TSOP, 16-Leads, Body 5x4.4mm, Pitch 0.65mm, Thermal Pad, IPC High Density)
footprint MXA16A_M (TSOP, 16-Leads, Body 5x4.4mm, Pitch 0.65mm, Thermal Pad, IPC Low Density)
pins: 1 VIN, 2 EN (in), 3 SS, 4 RAMP, 5 RT/SYNC, 6 GND (power), 7 COMP (power), 8 FB (power), 9 OUT, 10 RES, 11 CSG (power), 12 CS, 13 SW (power), 14 HG (power), 15 BOOT, 16 VCC (power), 17 EP

## LM5110-1M
designator U?
Dual 5A Compound Gate Driver with Negative Output Voltage Capability, 8-pin Narrow SOIC; PartNumber: LM5110-1M; Manufacturer: National Semiconductor; PackageTopMarking: NSZXTT*5110*-1M; PowerWise: N; CompType: Switcher; High-Reliability: Y; DatasheetVersion: Oct-2003; PackageVersion: revM, May-2009; PackageReference: M08A; PackageDescription: SOIC Narrow, 4.9 x 3.9 x 1.45mm, 8 Lead, 1.27mm Pitch; RoHS: N; PinCount: 8; Code_JEDEC: MS-012-AA; Code_IPC: SOIC127P600-8; ComponentLink1Description: Manufacturer URL; ComponentLink1URL: http://www.national.com/; ComponentLink2Description: LM5110 Datasheet; ComponentLink2URL: http://www.national.com/ds/LM/LM5110.pdf; ComponentLink3Description: LM5110 Web Page; ComponentLink3URL: http://www.national.com/pf/LM/LM5110.html; ComponentLink4Description: M08A Package Page; ComponentLink4URL: http://www.national.com/packaging/folders/m08a.html
footprint M08A_N (SOIC, 8-Leads, Body 4.9x3.9mm, Pitch 1.27mm, IPC Medium Density)
footprint M08A_L (SOIC, 8-Leads, Body 4.9x3.9mm, Pitch 1.27mm, IPC High Density)
footprint M08A_M (SOIC, 8-Leads, Body 4.9x3.9mm, Pitch 1.27mm, IPC Low Density)
pins: 1 IN_REF (power), 2 IN_A (power), 3 VEE (power), 4 IN_B (power), 5 OUT_B (power), 6 VCC (power), 7 OUT_A (power), 8 ~{SHDN} (in)

## LM5110-1M/NOPB
designator U?
Dual 5A Compound Gate Driver with Negative Output Voltage Capability, 8-pin Narrow SOIC, Pb-Free; PartNumber: LM5110-1M/NOPB; Manufacturer: National Semiconductor; PackageTopMarking: NSZXTT*5110*-1M; PowerWise: N; CompType: Switcher; High-Reliability: Y; DatasheetVersion: Oct-2003; PackageVersion: revM, May-2009; PackageReference: M08A; PackageDescription: SOIC Narrow, 4.9 x 3.9 x 1.45mm, 8 Lead, 1.27mm Pitch; RoHS: Y; PinCount: 8; Code_JEDEC: MS-012-AA; Code_IPC: SOIC127P600-8; ComponentLink1Description: Manufacturer URL; ComponentLink1URL: http://www.national.com/; ComponentLink2Description: LM5110 Datasheet; ComponentLink2URL: http://www.national.com/ds/LM/LM5110.pdf; ComponentLink3Description: LM5110 Web Page; ComponentLink3URL: http://www.national.com/pf/LM/LM5110.html; ComponentLink4Description: M08A Package Page; ComponentLink4URL: http://www.national.com/packaging/folders/m08a.html
footprint M08A_N (SOIC, 8-Leads, Body 4.9x3.9mm, Pitch 1.27mm, IPC Medium Density)
footprint M08A_L (SOIC, 8-Leads, Body 4.9x3.9mm, Pitch 1.27mm, IPC High Density)
footprint M08A_M (SOIC, 8-Leads, Body 4.9x3.9mm, Pitch 1.27mm, IPC Low Density)
pins: 1 IN_REF (power), 2 IN_A (power), 3 VEE (power), 4 IN_B (power), 5 OUT_B (power), 6 VCC (power), 7 OUT_A (power), 8 ~{SHDN} (in)

## LM5110-1MX
designator U?
Dual 5A Compound Gate Driver with Negative Output Voltage Capability, 8-pin Narrow SOIC; PartNumber: LM5110-1MX; Manufacturer: National Semiconductor; PackageTopMarking: NSZXTT*5110*-1M; PowerWise: N; CompType: Switcher; High-Reliability: Y; DatasheetVersion: Oct-2003; PackageVersion: revM, May-2009; PackageReference: M08A; PackageDescription: SOIC Narrow, 4.9 x 3.9 x 1.45mm, 8 Lead, 1.27mm Pitch; RoHS: N; PinCount: 8; Code_JEDEC: MS-012-AA; Code_IPC: SOIC127P600-8; ComponentLink1Description: Manufacturer URL; ComponentLink1URL: http://www.national.com/; ComponentLink2Description: LM5110 Datasheet; ComponentLink2URL: http://www.national.com/ds/LM/LM5110.pdf; ComponentLink3Description: LM5110 Web Page; ComponentLink3URL: http://www.national.com/pf/LM/LM5110.html; ComponentLink4Description: M08A Package Page; ComponentLink4URL: http://www.national.com/packaging/folders/m08a.html
footprint M08A_N (SOIC, 8-Leads, Body 4.9x3.9mm, Pitch 1.27mm, IPC Medium Density)
footprint M08A_L (SOIC, 8-Leads, Body 4.9x3.9mm, Pitch 1.27mm, IPC High Density)
footprint M08A_M (SOIC, 8-Leads, Body 4.9x3.9mm, Pitch 1.27mm, IPC Low Density)
pins: 1 IN_REF (power), 2 IN_A (power), 3 VEE (power), 4 IN_B (power), 5 OUT_B (power), 6 VCC (power), 7 OUT_A (power), 8 ~{SHDN} (in)

## LM5110-1SD
designator U?
Dual 5A Compound Gate Driver with Negative Output Voltage Capability, 10-pin LLP; PartNumber: LM5110-1SD; Manufacturer: National Semiconductor; PackageTopMarking: NS*UZXYTT*5110-1; PowerWise: N; CompType: Switcher; High-Reliability: Y; DatasheetVersion: Oct-2003; PackageVersion: revA, May-2003; PackageReference: SDC10A; PackageDescription: LLP, Plastic, Dual, 4 x 4 x 0.8mm Body, 10 Lead, 0.8mm Pitch, No Pullback; RoHS: N; PinCount: 10; ComponentLink1Description: Manufacturer URL; ComponentLink1URL: http://www.national.com/; ComponentLink2Description: LM5110 Datasheet; ComponentLink2URL: http://www.national.com/ds/LM/LM5110.pdf; ComponentLink3Description: LM5110 Web Page; ComponentLink3URL: http://www.national.com/pf/LM/LM5110.html; ComponentLink4Description: SDC10A Package Page; ComponentLink4URL: http://www.national.com/packaging/folders/sdc10a.html
footprint SDC10A (SON, 10-Leads, Body 4x4 mm, Pitch 0.8mm, NSC Recommended)
pins: 1 IN_REF (power), 2 IN_A (power), 3 VEE (power), 4 IN_B (power), 5 NC, 6 NC, 7 OUT_B (power), 8 VCC (power), 9 OUT_A (power), 10 ~{SHDN} (in), 11 DAP (power)

## LM5110-1SD/NOPB
designator U?
Dual 5A Compound Gate Driver with Negative Output Voltage Capability, 10-pin LLP, Pb-Free; PartNumber: LM5110-1SD/NOPB; Manufacturer: National Semiconductor; PackageTopMarking: NS*UZXYTT*5110-1; PowerWise: N; CompType: Switcher; High-Reliability: Y; DatasheetVersion: Oct-2003; PackageVersion: revA, May-2003; PackageReference: SDC10A; PackageDescription: LLP, Plastic, Dual, 4 x 4 x 0.8mm Body, 10 Lead, 0.8mm Pitch, No Pullback; RoHS: Y; PinCount: 10; ComponentLink1Description: Manufacturer URL; ComponentLink1URL: http://www.national.com/; ComponentLink2Description: LM5110 Datasheet; ComponentLink2URL: http://www.national.com/ds/LM/LM5110.pdf; ComponentLink3Description: LM5110 Web Page; ComponentLink3URL: http://www.national.com/pf/LM/LM5110.html; ComponentLink4Description: SDC10A Package Page; ComponentLink4URL: http://www.national.com/packaging/folders/sdc10a.html
footprint SDC10A (SON, 10-Leads, Body 4x4 mm, Pitch 0.8mm, NSC Recommended)
pins: 1 IN_REF (power), 2 IN_A (power), 3 VEE (power), 4 IN_B (power), 5 NC, 6 NC, 7 OUT_B (power), 8 VCC (power), 9 OUT_A (power), 10 ~{SHDN} (in), 11 DAP (power)

## LM5110-1SDX
designator U?
Dual 5A Compound Gate Driver with Negative Output Voltage Capability, 10-pin LLP; PartNumber: LM5110-1SDX; Manufacturer: National Semiconductor; PackageTopMarking: NS*UZXYTT*5110-1; PowerWise: N; CompType: Switcher; High-Reliability: Y; DatasheetVersion: Oct-2003; PackageVersion: revA, May-2003; PackageReference: SDC10A; PackageDescription: LLP, Plastic, Dual, 4 x 4 x 0.8mm Body, 10 Lead, 0.8mm Pitch, No Pullback; RoHS: N; PinCount: 10; ComponentLink1Description: Manufacturer URL; ComponentLink1URL: http://www.national.com/; ComponentLink2Description: LM5110 Datasheet; ComponentLink2URL: http://www.national.com/ds/LM/LM5110.pdf; ComponentLink3Description: LM5110 Web Page; ComponentLink3URL: http://www.national.com/pf/LM/LM5110.html; ComponentLink4Description: SDC10A Package Page; ComponentLink4URL: http://www.national.com/packaging/folders/sdc10a.html
footprint SDC10A (SON, 10-Leads, Body 4x4 mm, Pitch 0.8mm, NSC Recommended)
pins: 1 IN_REF (power), 2 IN_A (power), 3 VEE (power), 4 IN_B (power), 5 NC, 6 NC, 7 OUT_B (power), 8 VCC (power), 9 OUT_A (power), 10 ~{SHDN} (in), 11 DAP (power)

## LM5110-2M
designator U?
Dual 5A Compound Gate Driver with Negative Output Voltage Capability, 8-pin Narrow SOIC; PartNumber: LM5110-2M; Manufacturer: National Semiconductor; PackageTopMarking: NSZXTT*5110*-2M; PowerWise: N; CompType: Switcher; High-Reliability: Y; DatasheetVersion: Oct-2003; PackageVersion: revM, May-2009; PackageReference: M08A; PackageDescription: SOIC Narrow, 4.9 x 3.9 x 1.45mm, 8 Lead, 1.27mm Pitch; RoHS: N; PinCount: 8; Code_JEDEC: MS-012-AA; Code_IPC: SOIC127P600-8; ComponentLink1Description: Manufacturer URL; ComponentLink1URL: http://www.national.com/; ComponentLink2Description: LM5110 Datasheet; ComponentLink2URL: http://www.national.com/ds/LM/LM5110.pdf; ComponentLink3Description: LM5110 Web Page; ComponentLink3URL: http://www.national.com/pf/LM/LM5110.html; ComponentLink4Description: M08A Package Page; ComponentLink4URL: http://www.national.com/packaging/folders/m08a.html
footprint M08A_N (SOIC, 8-Leads, Body 4.9x3.9mm, Pitch 1.27mm, IPC Medium Density)
footprint M08A_L (SOIC, 8-Leads, Body 4.9x3.9mm, Pitch 1.27mm, IPC High Density)
footprint M08A_M (SOIC, 8-Leads, Body 4.9x3.9mm, Pitch 1.27mm, IPC Low Density)
pins: 1 IN_REF (power), 2 IN_A (power), 3 VEE (power), 4 IN_B (power), 5 OUT_B (power), 6 VCC (power), 7 OUT_A (power), 8 ~{SHDN} (in)

## LM5110-2M/NOPB
designator U?
Dual 5A Compound Gate Driver with Negative Output Voltage Capability, 8-pin Narrow SOIC, Pb-Free; PartNumber: LM5110-2M/NOPB; Manufacturer: National Semiconductor; PackageTopMarking: NSZXTT*5110*-2M; PowerWise: N; CompType: Switcher; High-Reliability: Y; DatasheetVersion: Oct-2003; PackageVersion: revM, May-2009; PackageReference: M08A; PackageDescription: SOIC Narrow, 4.9 x 3.9 x 1.45mm, 8 Lead, 1.27mm Pitch; RoHS: Y; PinCount: 8; Code_JEDEC: MS-012-AA; Code_IPC: SOIC127P600-8; ComponentLink1Description: Manufacturer URL; ComponentLink1URL: http://www.national.com/; ComponentLink2Description: LM5110 Datasheet; ComponentLink2URL: http://www.national.com/ds/LM/LM5110.pdf; ComponentLink3Description: LM5110 Web Page; ComponentLink3URL: http://www.national.com/pf/LM/LM5110.html; ComponentLink4Description: M08A Package Page; ComponentLink4URL: http://www.national.com/packaging/folders/m08a.html
footprint M08A_N (SOIC, 8-Leads, Body 4.9x3.9mm, Pitch 1.27mm, IPC Medium Density)
footprint M08A_L (SOIC, 8-Leads, Body 4.9x3.9mm, Pitch 1.27mm, IPC High Density)
footprint M08A_M (SOIC, 8-Leads, Body 4.9x3.9mm, Pitch 1.27mm, IPC Low Density)
pins: 1 IN_REF (power), 2 IN_A (power), 3 VEE (power), 4 IN_B (power), 5 OUT_B (power), 6 VCC (power), 7 OUT_A (power), 8 ~{SHDN} (in)

## LM5110-2MX
designator U?
Dual 5A Compound Gate Driver with Negative Output Voltage Capability, 8-pin Narrow SOIC; PartNumber: LM5110-2MX; Manufacturer: National Semiconductor; PackageTopMarking: NSZXTT*5110*-2M; PowerWise: N; CompType: Switcher; High-Reliability: Y; DatasheetVersion: Oct-2003; PackageVersion: revM, May-2009; PackageReference: M08A; PackageDescription: SOIC Narrow, 4.9 x 3.9 x 1.45mm, 8 Lead, 1.27mm Pitch; RoHS: N; PinCount: 8; Code_JEDEC: MS-012-AA; Code_IPC: SOIC127P600-8; ComponentLink1Description: Manufacturer URL; ComponentLink1URL: http://www.national.com/; ComponentLink2Description: LM5110 Datasheet; ComponentLink2URL: http://www.national.com/ds/LM/LM5110.pdf; ComponentLink3Description: LM5110 Web Page; ComponentLink3URL: http://www.national.com/pf/LM/LM5110.html; ComponentLink4Description: M08A Package Page; ComponentLink4URL: http://www.national.com/packaging/folders/m08a.html
footprint M08A_N (SOIC, 8-Leads, Body 4.9x3.9mm, Pitch 1.27mm, IPC Medium Density)
footprint M08A_L (SOIC, 8-Leads, Body 4.9x3.9mm, Pitch 1.27mm, IPC High Density)
footprint M08A_M (SOIC, 8-Leads, Body 4.9x3.9mm, Pitch 1.27mm, IPC Low Density)
pins: 1 IN_REF (power), 2 IN_A (power), 3 VEE (power), 4 IN_B (power), 5 OUT_B (power), 6 VCC (power), 7 OUT_A (power), 8 ~{SHDN} (in)

## LM5110-2SD
designator U?
Dual 5A Compound Gate Driver with Negative Output Voltage Capability, 10-pin LLP; PartNumber: LM5110-2SD; Manufacturer: National Semiconductor; PackageTopMarking: NS*UZXYTT*5110-2; PowerWise: N; CompType: Switcher; High-Reliability: Y; DatasheetVersion: Oct-2003; PackageVersion: revA, May-2003; PackageReference: SDC10A; PackageDescription: LLP, Plastic, Dual, 4 x 4 x 0.8mm Body, 10 Lead, 0.8mm Pitch, No Pullback; RoHS: N; PinCount: 10; ComponentLink1Description: Manufacturer URL; ComponentLink1URL: http://www.national.com/; ComponentLink2Description: LM5110 Datasheet; ComponentLink2URL: http://www.national.com/ds/LM/LM5110.pdf; ComponentLink3Description: LM5110 Web Page; ComponentLink3URL: http://www.national.com/pf/LM/LM5110.html; ComponentLink4Description: SDC10A Package Page; ComponentLink4URL: http://www.national.com/packaging/folders/sdc10a.html
footprint SDC10A (SON, 10-Leads, Body 4x4 mm, Pitch 0.8mm, NSC Recommended)
pins: 1 IN_REF (power), 2 IN_A (power), 3 VEE (power), 4 IN_B (power), 5 NC, 6 NC, 7 OUT_B (power), 8 VCC (power), 9 OUT_A (power), 10 ~{SHDN} (in), 11 DAP (power)

## LM5110-2SD/NOPB
designator U?
Dual 5A Compound Gate Driver with Negative Output Voltage Capability, 10-pin LLP, Pb-Free; PartNumber: LM5110-2SD/NOPB; Manufacturer: National Semiconductor; PackageTopMarking: NS*UZXYTT*5110-2; PowerWise: N; CompType: Switcher; High-Reliability: Y; DatasheetVersion: Oct-2003; PackageVersion: revA, May-2003; PackageReference: SDC10A; PackageDescription: LLP, Plastic, Dual, 4 x 4 x 0.8mm Body, 10 Lead, 0.8mm Pitch, No Pullback; RoHS: Y; PinCount: 10; ComponentLink1Description: Manufacturer URL; ComponentLink1URL: http://www.national.com/; ComponentLink2Description: LM5110 Datasheet; ComponentLink2URL: http://www.national.com/ds/LM/LM5110.pdf; ComponentLink3Description: LM5110 Web Page; ComponentLink3URL: http://www.national.com/pf/LM/LM5110.html; ComponentLink4Description: SDC10A Package Page; ComponentLink4URL: http://www.national.com/packaging/folders/sdc10a.html
footprint SDC10A (SON, 10-Leads, Body 4x4 mm, Pitch 0.8mm, NSC Recommended)
pins: 1 IN_REF (power), 2 IN_A (power), 3 VEE (power), 4 IN_B (power), 5 NC, 6 NC, 7 OUT_B (power), 8 VCC (power), 9 OUT_A (power), 10 ~{SHDN} (in), 11 DAP (power)

## LM5110-2SDX
designator U?
Dual 5A Compound Gate Driver with Negative Output Voltage Capability, 10-pin LLP; PartNumber: LM5110-2SDX; Manufacturer: National Semiconductor; PackageTopMarking: NS*UZXYTT*5110-2; PowerWise: N; CompType: Switcher; High-Reliability: Y; DatasheetVersion: Oct-2003; PackageVersion: revA, May-2003; PackageReference: SDC10A; PackageDescription: LLP, Plastic, Dual, 4 x 4 x 0.8mm Body, 10 Lead, 0.8mm Pitch, No Pullback; RoHS: N; PinCount: 10; ComponentLink1Description: Manufacturer URL; ComponentLink1URL: http://www.national.com/; ComponentLink2Description: LM5110 Datasheet; ComponentLink2URL: http://www.national.com/ds/LM/LM5110.pdf; ComponentLink3Description: LM5110 Web Page; ComponentLink3URL: http://www.national.com/pf/LM/LM5110.html; ComponentLink4Description: SDC10A Package Page; ComponentLink4URL: http://www.national.com/packaging/folders/sdc10a.html
footprint SDC10A (SON, 10-Leads, Body 4x4 mm, Pitch 0.8mm, NSC Recommended)
pins: 1 IN_REF (power), 2 IN_A (power), 3 VEE (power), 4 IN_B (power), 5 NC, 6 NC, 7 OUT_B (power), 8 VCC (power), 9 OUT_A (power), 10 ~{SHDN} (in), 11 DAP (power)

## LM5110-3M
designator U?
Dual 5A Compound Gate Driver with Negative Output Voltage Capability, 8-pin Narrow SOIC; PartNumber: LM5110-3M; Manufacturer: National Semiconductor; PackageTopMarking: NSZXTT*5110*-3M; PowerWise: N; CompType: Switcher; High-Reliability: Y; DatasheetVersion: Oct-2003; PackageVersion: revM, May-2009; PackageReference: M08A; PackageDescription: SOIC Narrow, 4.9 x 3.9 x 1.45mm, 8 Lead, 1.27mm Pitch; RoHS: N; PinCount: 8; Code_JEDEC: MS-012-AA; Code_IPC: SOIC127P600-8; ComponentLink1Description: Manufacturer URL; ComponentLink1URL: http://www.national.com/; ComponentLink2Description: LM5110 Datasheet; ComponentLink2URL: http://www.national.com/ds/LM/LM5110.pdf; ComponentLink3Description: LM5110 Web Page; ComponentLink3URL: http://www.national.com/pf/LM/LM5110.html; ComponentLink4Description: M08A Package Page; ComponentLink4URL: http://www.national.com/packaging/folders/m08a.html
footprint M08A_N (SOIC, 8-Leads, Body 4.9x3.9mm, Pitch 1.27mm, IPC Medium Density)
footprint M08A_L (SOIC, 8-Leads, Body 4.9x3.9mm, Pitch 1.27mm, IPC High Density)
footprint M08A_M (SOIC, 8-Leads, Body 4.9x3.9mm, Pitch 1.27mm, IPC Low Density)
pins: 1 IN_REF (power), 2 IN_A (power), 3 VEE (power), 4 IN_B (power), 5 OUT_B (power), 6 VCC (power), 7 OUT_A (power), 8 ~{SHDN} (in)

## LM5110-3M/NOPB
designator U?
Dual 5A Compound Gate Driver with Negative Output Voltage Capability, 8-pin Narrow SOIC, Pb-Free; PartNumber: LM5110-3M/NOPB; Manufacturer: National Semiconductor; PackageTopMarking: NSZXTT*5110*-3M; PowerWise: N; CompType: Switcher; High-Reliability: Y; DatasheetVersion: Oct-2003; PackageVersion: revM, May-2009; PackageReference: M08A; PackageDescription: SOIC Narrow, 4.9 x 3.9 x 1.45mm, 8 Lead, 1.27mm Pitch; RoHS: Y; PinCount: 8; Code_JEDEC: MS-012-AA; Code_IPC: SOIC127P600-8; ComponentLink1Description: Manufacturer URL; ComponentLink1URL: http://www.national.com/; ComponentLink2Description: LM5110 Datasheet; ComponentLink2URL: http://www.national.com/ds/LM/LM5110.pdf; ComponentLink3Description: LM5110 Web Page; ComponentLink3URL: http://www.national.com/pf/LM/LM5110.html; ComponentLink4Description: M08A Package Page; ComponentLink4URL: http://www.national.com/packaging/folders/m08a.html
footprint M08A_N (SOIC, 8-Leads, Body 4.9x3.9mm, Pitch 1.27mm, IPC Medium Density)
footprint M08A_L (SOIC, 8-Leads, Body 4.9x3.9mm, Pitch 1.27mm, IPC High Density)
footprint M08A_M (SOIC, 8-Leads, Body 4.9x3.9mm, Pitch 1.27mm, IPC Low Density)
pins: 1 IN_REF (power), 2 IN_A (power), 3 VEE (power), 4 IN_B (power), 5 OUT_B (power), 6 VCC (power), 7 OUT_A (power), 8 ~{SHDN} (in)

## LM5110-3MX
designator U?
Dual 5A Compound Gate Driver with Negative Output Voltage Capability, 8-pin Narrow SOIC; PartNumber: LM5110-3MX; Manufacturer: National Semiconductor; PackageTopMarking: NSZXTT*5110*-3M; PowerWise: N; CompType: Switcher; High-Reliability: Y; DatasheetVersion: Oct-2003; PackageVersion: revM, May-2009; PackageReference: M08A; PackageDescription: SOIC Narrow, 4.9 x 3.9 x 1.45mm, 8 Lead, 1.27mm Pitch; RoHS: N; PinCount: 8; Code_JEDEC: MS-012-AA; Code_IPC: SOIC127P600-8; ComponentLink1Description: Manufacturer URL; ComponentLink1URL: http://www.national.com/; ComponentLink2Description: LM5110 Datasheet; ComponentLink2URL: http://www.national.com/ds/LM/LM5110.pdf; ComponentLink3Description: LM5110 Web Page; ComponentLink3URL: http://www.national.com/pf/LM/LM5110.html; ComponentLink4Description: M08A Package Page; ComponentLink4URL: http://www.national.com/packaging/folders/m08a.html
footprint M08A_N (SOIC, 8-Leads, Body 4.9x3.9mm, Pitch 1.27mm, IPC Medium Density)
footprint M08A_L (SOIC, 8-Leads, Body 4.9x3.9mm, Pitch 1.27mm, IPC High Density)
footprint M08A_M (SOIC, 8-Leads, Body 4.9x3.9mm, Pitch 1.27mm, IPC Low Density)
pins: 1 IN_REF (power), 2 IN_A (power), 3 VEE (power), 4 IN_B (power), 5 OUT_B (power), 6 VCC (power), 7 OUT_A (power), 8 ~{SHDN} (in)